# Altium footprint library 0201 Package.PcbLib: 13 footprints
Each footprint in its own frame and in the unit in brackets; x right, y up, seen from the top. Pads: shape width x height; smd on the part's side, far side on the other; paste and mask are expansions set on the pad; w line width, h text height; cw(c..) or ccw(c..) is an arc to the next point about the centre after c.
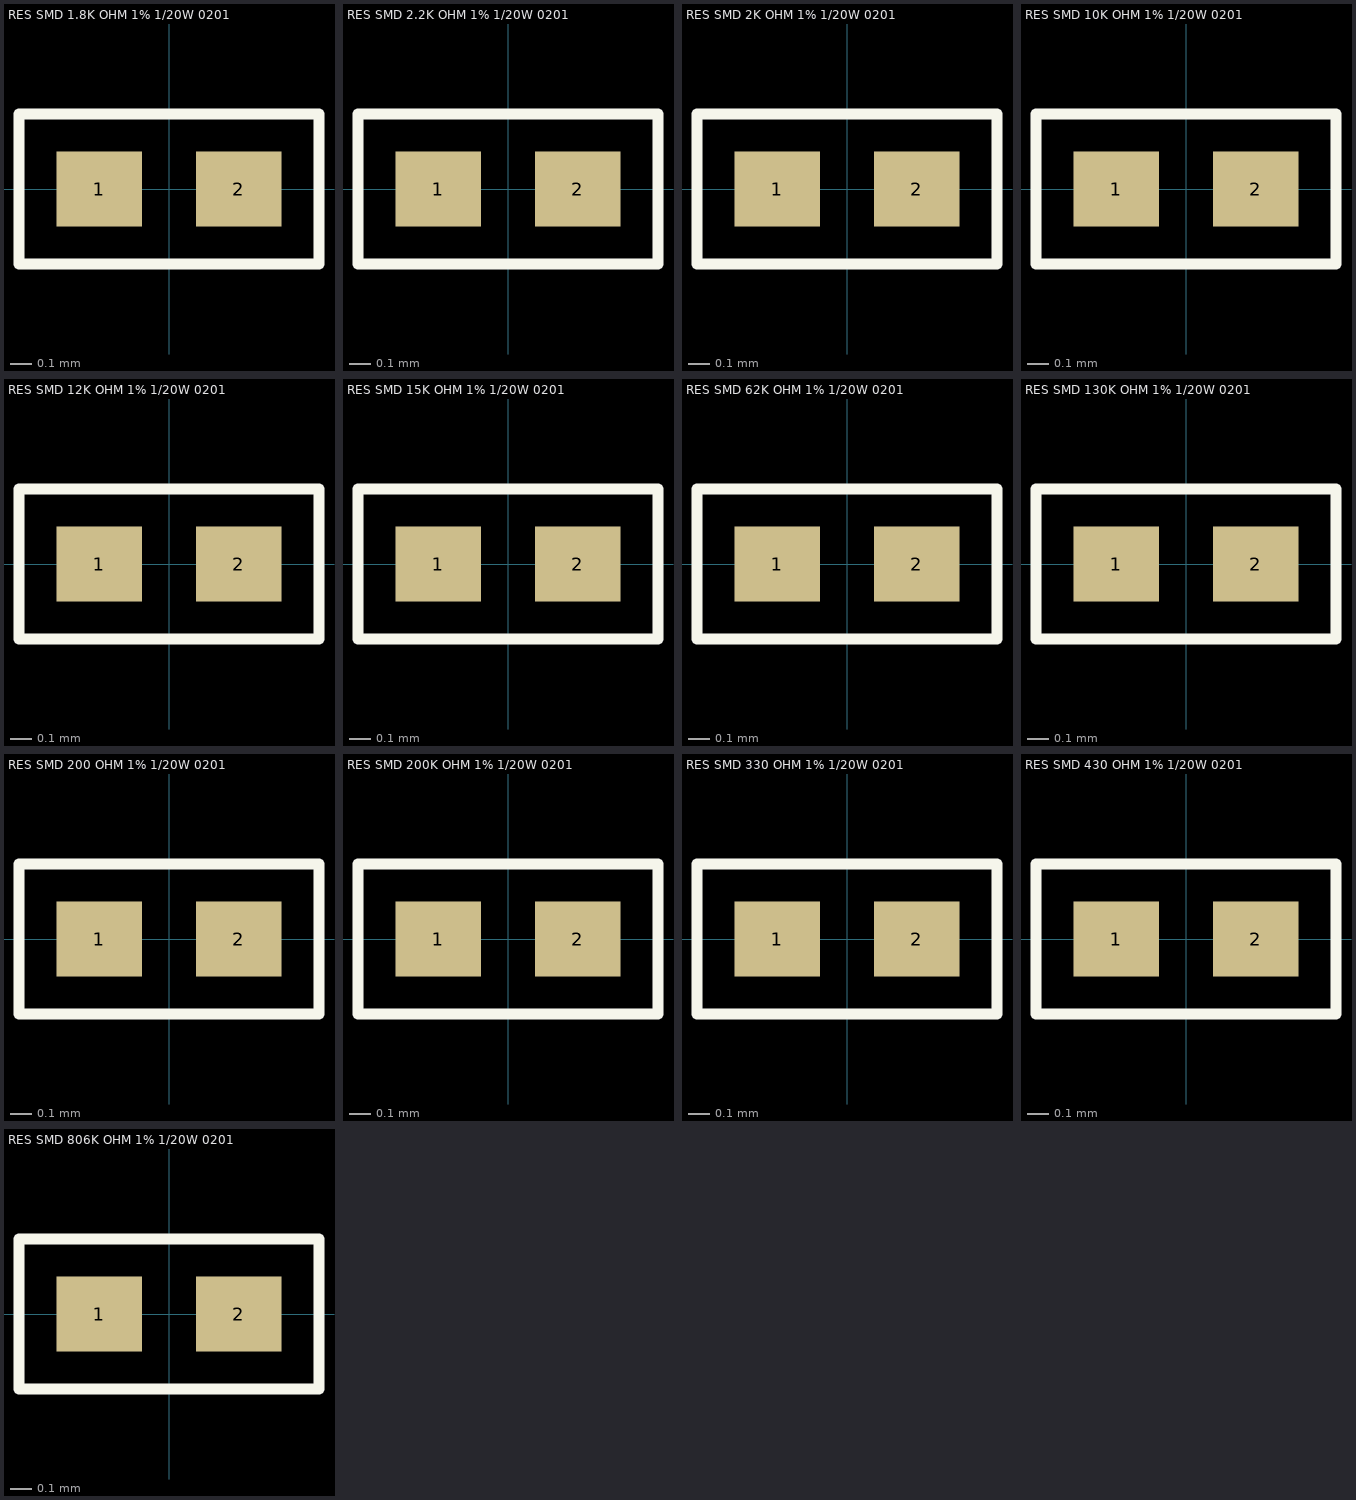
[diagram p0: the footprints below, top view; thin cyan lines are the x and y axes]

## RES SMD 1.8K OHM 1% 1/20W 0201 [mm] "1.8 kOhms ±1% 0.05W, 1/20W Chip Resistor 0201 (0603 Metric) Moisture Resistant Thick Film"
height 0.26
pads (2):
  rect 0.4x0.35 smd: 1(-0.325,0) 2(0.325,0)
Top Overlay:
  lines w0.05: -0.7,-0.35 0.7,-0.35 0.7,0.35 -0.7,0.35 -0.7,-0.35
3D body "Resistor 0201.step": height 0.24, standoff 0.01, extent -0.3,-0.15 0.3,0.15

## RES SMD 2.2K OHM 1% 1/20W 0201 [mm] "2.2 kOhms ±1% 0.05W, 1/20W Chip Resistor 0201 (0603 Metric) Moisture Resistant Thick Film"
height 0.26
pads (2):
  rect 0.4x0.35 smd: 1(-0.325,0) 2(0.325,0)
Top Overlay:
  lines w0.05: -0.7,-0.35 0.7,-0.35 0.7,0.35 -0.7,0.35 -0.7,-0.35
3D body "Resistor 0201.step": height 0.24, standoff 0.01, extent -0.3,-0.15 0.3,0.15

## RES SMD 2K OHM 1% 1/20W 0201 [mm] "2 kOhms ±1% 0.05W, 1/20W Chip Resistor 0201 (0603 Metric) Moisture Resistant Thick Film"
height 0.26
pads (2):
  rect 0.4x0.35 smd: 1(-0.325,0) 2(0.325,0)
Top Overlay:
  lines w0.05: -0.7,-0.35 0.7,-0.35 0.7,0.35 -0.7,0.35 -0.7,-0.35
3D body "Resistor 0201.step": height 0.24, standoff 0.01, extent -0.3,-0.15 0.3,0.15

## RES SMD 10K OHM 1% 1/20W 0201 [mm] "10 kOhms ±1% 0.05W, 1/20W Chip Resistor 0201 (0603 Metric) Moisture Resistant Thick Film"
height 0.26
pads (2):
  rect 0.4x0.35 smd: 1(-0.325,0) 2(0.325,0)
Top Overlay:
  lines w0.05: -0.7,-0.35 -0.7,0.35 0.7,0.35 0.7,-0.35 -0.7,-0.35
3D body "Resistor 0201.step": height 0.24, standoff 0.01, extent -0.3,-0.15 0.3,0.15

## RES SMD 12K OHM 1% 1/20W 0201 [mm] "12 kOhms ±1% 0.05W, 1/20W Chip Resistor 0201 (0603 Metric) Moisture Resistant Thick Film"
height 0.26
pads (2):
  rect 0.4x0.35 smd: 1(-0.325,0) 2(0.325,0)
Top Overlay:
  lines w0.05: -0.7,-0.35 -0.7,0.35 0.7,0.35 0.7,-0.35 -0.7,-0.35
3D body "Resistor 0201.step": height 0.24, standoff 0.01, extent -0.3,-0.15 0.3,0.15

## RES SMD 15K OHM 1% 1/20W 0201 [mm] "15 kOhms ±1% 0.05W, 1/20W Chip Resistor 0201 (0603 Metric) Moisture Resistant Thick Film"
height 0.26
pads (2):
  rect 0.4x0.35 smd: 1(-0.325,0) 2(0.325,0)
Top Overlay:
  lines w0.05: -0.7,-0.35 0.7,-0.35 0.7,0.35 -0.7,0.35 -0.7,-0.35
3D body "Resistor 0201.step": height 0.24, standoff 0.01, extent -0.3,-0.15 0.3,0.15

## RES SMD 62K OHM 1% 1/20W 0201 [mm] "62 kOhms ±1% 0.05W, 1/20W Chip Resistor 0201 (0603 Metric) Moisture Resistant Thick Film"
height 0.26
pads (2):
  rect 0.4x0.35 smd: 1(-0.325,0) 2(0.325,0)
Top Overlay:
  lines w0.05: -0.7,-0.35 0.7,-0.35 0.7,0.35 -0.7,0.35 -0.7,-0.35
3D body "Resistor 0201.step": height 0.24, standoff 0.01, extent -0.3,-0.15 0.3,0.15

## RES SMD 130K OHM 1% 1/20W 0201 [mm] "130 kOhms ±1% 0.05W, 1/20W Chip Resistor 0201 (0603 Metric) Moisture Resistant Thick Film"
height 0.26
pads (2):
  rect 0.4x0.35 smd: 1(-0.325,0) 2(0.325,0)
Top Overlay:
  lines w0.05: -0.7,-0.35 0.7,-0.35 0.7,0.35 -0.7,0.35 -0.7,-0.35
3D body "Resistor 0201.step": height 0.24, standoff 0.01, extent -0.3,-0.15 0.3,0.15

## RES SMD 200 OHM 1% 1/20W 0201 [mm] "200 Ohms ±1% 0.05W, 1/20W Chip Resistor 0201 (0603 Metric) Moisture Resistant Thick Film"
height 0.26
pads (2):
  rect 0.4x0.35 smd: 1(-0.325,0) 2(0.325,0)
Top Overlay:
  lines w0.05: -0.7,-0.35 -0.7,0.35 0.7,0.35 0.7,-0.35 -0.7,-0.35
3D body "Resistor 0201.step": height 0.24, standoff 0.01, extent -0.3,-0.15 0.3,0.15

## RES SMD 200K OHM 1% 1/20W 0201 [mm] "200 kOhms ±1% 0.05W, 1/20W Chip Resistor 0201 (0603 Metric) Moisture Resistant Thick Film"
height 0.26
pads (2):
  rect 0.4x0.35 smd: 1(-0.325,0) 2(0.325,0)
Top Overlay:
  lines w0.05: -0.7,-0.35 -0.7,0.35 0.7,0.35 0.7,-0.35 -0.7,-0.35
3D body "Resistor 0201.step": height 0.24, standoff 0.01, extent -0.3,-0.15 0.3,0.15

## RES SMD 330 OHM 1% 1/20W 0201 [mm] "330 Ohms ±1% 0.05W, 1/20W Chip Resistor 0201 (0603 Metric) Moisture Resistant Thick Film"
height 0.26
pads (2):
  rect 0.4x0.35 smd: 1(-0.325,0) 2(0.325,0)
Top Overlay:
  lines w0.05: -0.7,-0.35 -0.7,0.35 0.7,0.35 0.7,-0.35 -0.7,-0.35
3D body "Resistor 0201.step": height 0.24, standoff 0.01, extent -0.3,-0.15 0.3,0.15

## RES SMD 430 OHM 1% 1/20W 0201 [mm] "430 Ohms ±1% 0.05W, 1/20W Chip Resistor 0201 (0603 Metric) Moisture Resistant Thick Film"
height 0.26
pads (2):
  rect 0.4x0.35 smd: 1(-0.325,0) 2(0.325,0)
Top Overlay:
  lines w0.05: -0.7,-0.35 -0.7,0.35 0.7,0.35 0.7,-0.35 -0.7,-0.35
3D body "Resistor 0201.step": height 0.24, standoff 0.01, extent -0.3,-0.15 0.3,0.15

## RES SMD 806K OHM 1% 1/20W 0201 [mm] "806 kOhms ±1% 0.05W, 1/20W Chip Resistor 0201 (0603 Metric) Moisture Resistant Thick Film"
height 0.26
pads (2):
  rect 0.4x0.35 smd: 1(-0.325,0) 2(0.325,0)
Top Overlay:
  lines w0.05: -0.7,-0.35 -0.7,0.35 0.7,0.35 0.7,-0.35 -0.7,-0.35
3D body "Resistor 0201.step": height 0.24, standoff 0.01, extent -0.3,-0.15 0.3,0.15